# EAGLE library part CORTEX-DEBUG (library cortex-debug)
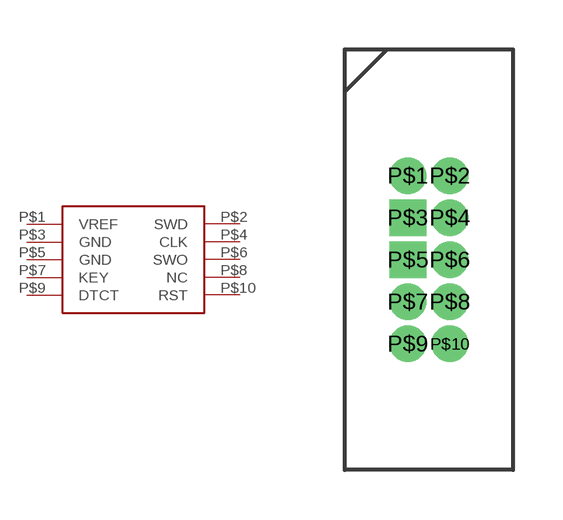
[diagram p0: symbol with the pads of FOOTPRINT; footprint FOOTPRINT]

Designator prefix -

## CORTEX-DEBUG  [FOOTPRINT]
P$1  VREF
P$2  SWD
P$3  GND
P$4  CLK
P$5  GND
P$6  SWO
P$7  KEY
P$8  NC
P$9  DTCT
P$10  RST

## Footprint FOOTPRINT (pad centres in mm)
drill 0.6: P$1 0,0; P$2 1.27,0; P$4 1.27,-1.27; P$6 1.27,-2.54; P$7 0,-3.81; P$8 1.27,-3.81; P$9 0,-5.08; P$10 1.27,-5.08
drill 0.6 square: P$3 0,-1.27; P$5 0,-2.54